# Altium schematic symbol library Schlib1.SchLib: 21 symbols
Pins are listed as number, name and electrical type; pins without a type are passive.

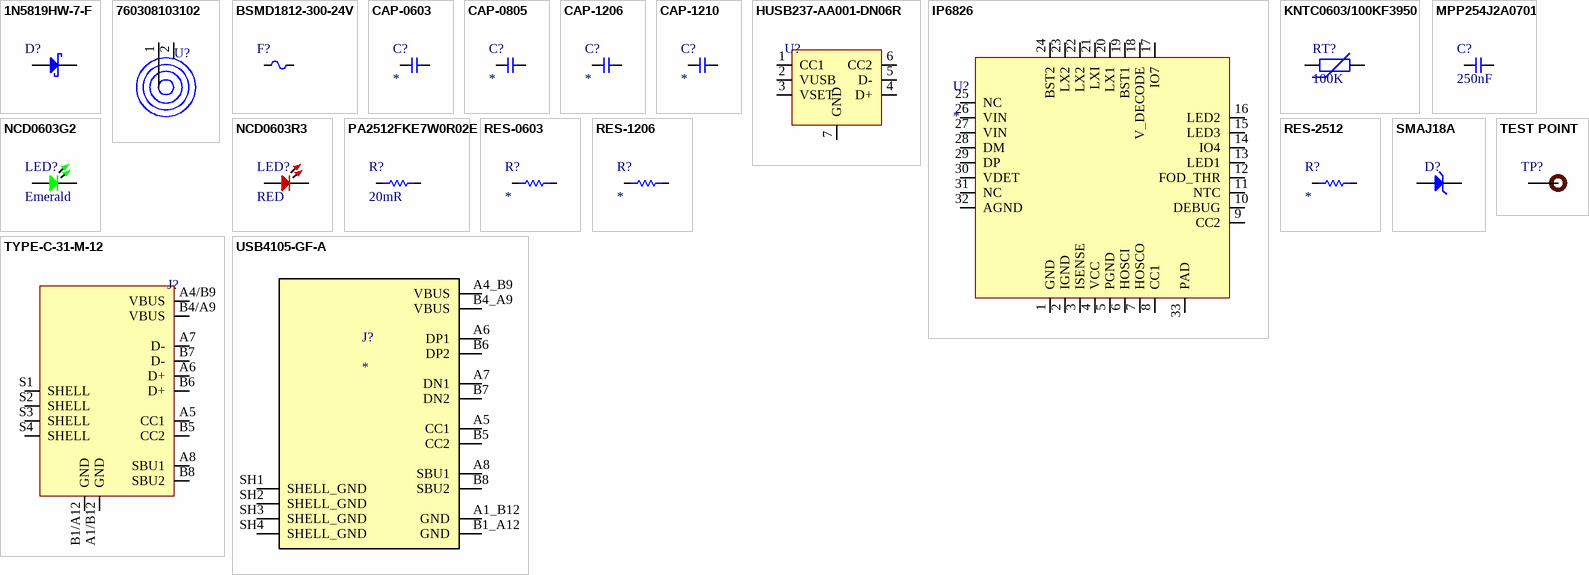
[diagram p0: symbols 1N5819HW-7-F to USB4105-GF-A]

## 1N5819HW-7-F
designator D?
DIODE SCHOTTKY 40V 1A SOD123; Manufacturer: Diodes; Manufacturer Part Number: 1N5819HW-7-F; Forward Voltage: 450mV; Max Reverse Current: 50uA; Element Configuration: Single; Max Forward Surge Current (Ifsm): 25A; Max Power Dissipation: 450mW; Polarity: Standard; Capacitance: 110pF; Supplier 1: Digi-Key; RoHS: Yes; Category: Schottky Diodes; Pricing 1: 1=0.46000, 10=0.34500, 100=0.19530, 500=0.12936, 1000=0.09918 (USD); Case/Package: SOD-123-2; Number of Pins: 2; Weight: 0.000353oz; Contact Plating: Tin,Matte; Min Operating Temperature: -65°C; Max Operating Temperature: 125°C; Forward Current: 1A; Max Repetitive Reverse Voltage (Vrrm): 40V; Packaging: Tape and Reel; Peak Non-Repetitive Surge Current: 25A; Package Quantity: 3000; Average Rectified Current: 1A; Termination: SMD/SMT; Voltage Rating (DC): 40V; Current Rating: 1A; Output Current: 1A; Max Reverse Voltage (DC): 40V; Series: -; Length: 2.85mm; Width: 1.7mm; Height: 1.25mm; Radiation Hardening: No; RoHS Compliant: Yes; REACH SVHC: No SVHC; Lead Free: Lead Free; ComponentLink1URL: https://datasheet.ciiva.com/16303/ds30217-16303296.pdf?src-supplier=Future+Electronics; ComponentLink1Description: https://datasheet.ciiva.com/16303/ds30217-16303296.pdf?src-supplier=Future+Electronics; ComponentLink2URL: https://datasheet.ciiva.com/27092/1538419-27092484.pdf?src-supplier=Jameco; ComponentLink2Description: https://datasheet.ciiva.com/27092/1538419-27092484.pdf?src-supplier=Jameco; ComponentLink3URL: https://datasheet.ciiva.com/912/ds30217-912801.pdf?src-supplier=Digi-Key; ComponentLink3Description: https://datasheet.ciiva.com/912/ds30217-912801.pdf?src-supplier=Digi-Key; ComponentLink4URL: https://datasheet.ciiva.com/1177/ds30217-1177089.pdf?src-supplier=Element14; ComponentLink4Description: https://datasheet.ciiva.com/1177/ds30217-1177089.pdf?src-supplier=Element14; ComponentLink5URL: https://datasheet.ciiva.com/912/ds30217-912802.pdf?src-supplier=Digi-Key; ComponentLink5Description: https://datasheet.ciiva.com/912/ds30217-912802.pdf?src-supplier=Digi-Key; ComponentLink6URL: https://datasheet.ciiva.com/912/ds30217-912803.pdf?src-supplier=Digi-Key; ComponentLink6Description: https://datasheet.ciiva.com/912/ds30217-912803.pdf?src-supplier=Digi-Key; ComponentLink7URL: https://datasheet.ciiva.com/8303/ds30217-8303132.pdf?src-supplier=Avnet; ComponentLink7Description: https://datasheet.ciiva.com/8303/ds30217-8303132.pdf?src-supplier=Avnet; ComponentLink8URL: https://datasheet.ciiva.com/25919/ds30217-25919644.pdf?src-supplier=Avnet+Europe; ComponentLink8Description: https://datasheet.ciiva.com/25919/ds30217-25919644.pdf?src-supplier=Avnet+Europe; Supplier Part Number 1: 1N5819HW-FDICT-ND; LCSC Part Number: C82544; Item Type: Diode
footprint SOD-123
pins: 1 A, 2 K

## 760308103102
designator U?, comment 10uH  (value not drawn)
WE-WPCC Wireless Power Transfer Transmitter Coil, THT, Qi - MP-A2, 10uH, 150W; Manufacturer Part Number: 760308103102; Manufacturer: Wurth Elektronik; DC Resistance Max: 55mOhm; Q Factor: 130; Rated Current: 7A; Self Resonant Frequency: 11MHz; Category: Wireless Power Transmission; Match Code: WE-WPCC; ComponentLink1Description: Website Link; ComponentLink1URL: https://www.we-online.com/redexpert/article/760308103102?ad; ComponentLink2Description: Datasheet Link; ComponentLink2URL: https://www.we-online.com/redexpert/spec/760308103102?ad; Mount: Through Hole; Operating Temperature Max: 105°C; Operating Temperature Min: -20°C; Packaging: Tray; Length: 53; Width: 53; Height: 4.5mm; Compliance: Qi - MP-A2; Inductance: 10uH; Power Capability: 150W
footprint 760308103102
pins: 1, 2

## BSMD1812-300-24V
designator F?
24V 3A 40A 6A 1812 Resettable Fuses ROHS; Manufacturer: BHFUSE; Manufacturer Part Number: BSMD1812-300-24V; Item Type: Fuse; Supplier: LCSC; LCSC Part Number: C7500481; RoHS: No; ComponentLink1Description: LCSC; ComponentLink1URL: https://www.lcsc.com/product-detail/Resettable-Fuses_BHFUSE-BSMD1812-300-24V_C7500481.html
footprint Fuse-1812_
pins: 1, 2

## CAP-0603
designator C?
footprint Cap-0603
pins: 1, 2

## CAP-0805
designator C?
footprint Cap-0805 (SMD 0805)
pins: 1, 2

## CAP-1206
designator C?
footprint Cap-1206 (SMD 1206)
pins: 1, 2

## CAP-1210
designator C?
footprint Cap-1210 (SMD 1210)
pins: 1, 2

## HUSB237-AA001-DN06R
designator U?
DFN-6L-EP(2x2) USB PD ROHS; Manufacturer: Hynetek; Manufacturer Part Number: HUSB237-AA001-DN06R; Item Type: IC; Package: DFN-6L-EP(2x2); LCSC Part Number: C22373734; ComponentLink1Description: LCSC; ComponentLink1URL: https://www.lcsc.com/product-detail/USB-PD_Hynetek-HUSB237-AA001-DN06R_C22373734.html
footprint DFN-6L-EP(2x2)
pins: 1 CC1, 2 VUSB, 3 VSET, 4 D+, 5 D-, 6 CC2, 7 GND

## IP6826
designator U?
footprint QFN-32_L5.0-W5.0-P0.50-BL-EP3.8
pins: 1 GND, 2 IGND, 3 ISENSE, 4 VCC, 5 PGND, 6 HOSCI, 7 HOSCO, 8 CC1, 9 CC2, 10 DEBUG, 11 NTC, 12 FOD_THR, 13 LED1, 14 IO4, 15 LED3, 16 LED2, 17 IO7, 18 V_DECODE, 19 BST1, 20 LX1, 21 LXI, 22 LX2, 23 LX2, 24 BST2, 25 NC, 26 VIN, 27 VIN, 28 DM, 29 DP, 30 VDET, 31 NC, 32 AGND, 33 PAD

## KNTC0603/100KF3950
designator RT?, comment 100K
100kΩ 100uA 100mW 3950K ±1% 0603 NTC Thermistors ROHS; Manufacturer: KUU; Manufacturer Part Number: KNTC0603/100KF3950; Package: 0603; LCSC Part Number: C2892545; Item Type: NTC Thermistor; ComponentLink1Description: LCSC; ComponentLink1URL: https://lcsc.com/product-detail/NTC-Thermistors_KUU-KNTC0603-100KF3950_C2892545.html
footprint Res-0603
pins: 1, 2

## MPP254J2A0701
designator C?, comment 250nF
footprint CAP-TH_L9.0-W3.5-P7.50-D1.0
pins: 1, 2

## NCD0603G2
designator LED?, comment Emerald
Emerald 0603 Light Emitting Diodes (LED) ROHS; Manufacturer: Foshan NationStar Optoelectronics; Manufacturer Part Number: NCD0603G2; Package: 0603; LCSC Part Number: C87326; Item Type: LED; ComponentLink1Description: LCSC; ComponentLink1URL: https://www.lcsc.com/product-detail/Light-Emitting-Diodes-LED_Foshan-NationStar-Optoelectronics-NCD0603G2_C87326.html
footprint LED-0603
pins: 1, 2

## NCD0603R3
designator LED?, comment RED
RED LED 0603 Light Emitting Diodes; Manufacturer: Foshan NationStar Optoelectronics; Manufacturer Part Number: NCD0603R3; Package: 0603; Item Type: LED; LCSC Part Number: C3151730; ComponentLink1Description: LCSC; ComponentLink1URL: https://www.lcsc.com/product-detail/Light-Emitting-Diodes-LED_Foshan-NationStar-Optoelectronics-NCD0603R3_C3151730.html
footprint LED-0603
pins: 1, 2

## PA2512FKE7W0R02E
designator R?, comment 20mR
RES 0.02 OHM 1% 2W 2512; Manufacturer: Yageo; Manufacturer Part Number: PA2512FKE7W0R02E; Item Type: Resistor; Supplier: Digikey; LCSC Part Number: C375689; RoHS: No; Stock: 3212; Pricing: 1=0.79, 10=0.514, 25=0.4384, 50=0.3908, 100=0.3503, 250=0.306, 500=0.27824, 1000=0.25464 (USD); ComponentLink1URL: https://datasheet.octopart.com/PA2512FKE7W0R02E-Yageo-datasheet-137700559.pdf?src-supplier=Newark; ComponentLink1Description: https://datasheet.octopart.com/PA2512FKE7W0R02E-Yageo-datasheet-137700559.pdf?src-supplier=Newark
footprint RES-2512
pins: 1, 2

## RES-0603
designator R?
footprint Res-0603
pins: 1, 2

## RES-1206
designator R?
footprint Res-1206
pins: 1, 2

## RES-2512
designator R?
footprint RES-2512
pins: 1, 2

## SMAJ18A
designator D?
13.7A 400W 29.2V 20V Unidirectional 18V SMA(DO-214AC) Electrostatic and Surge Protection (TVS/ESD) ROHS; Manufacturer: SMC; Manufacturer Part Number: SMAJ18A; Package: SMA(DO-214AC); LCSC Part Number: C499735; Item Type: TVS/ESD; ComponentLink1Description: LCSC; ComponentLink1URL: https://www.lcsc.com/product-detail/Electrostatic-and-Surge-Protection-TVS-ESD_SMC-Sangdest-Microelectronicstronic-Nanjing-SMAJ18A_C499735.html
footprint SMA(DO-214AC)
pins: 1 K, 2 A

## TEST POINT
designator TP?  (no BOM)
Test Point ON; Item Type: TEST POINT
footprint Test-point
pins: 1

## TYPE-C-31-M-12
designator J?
5A 1 16P Female Type-C SMD USB Connectors ROHS; Manufacturer: Korean Hroparts Elec; Manufacturer Part Number: TYPE-C-31-M-12; ComponentLink1Description: LCSC; ComponentLink1URL: https://www.lcsc.com/product-detail/USB-Connectors_Korean-Hroparts-Elec-TYPE-C-31-M-12_C165948.html; Footprint: Custom; LCSC Part Number: C165948; Item Type: USB Connector
footprint TYPE-C-31-M-12_
pins: A1/B12 GND (power), A4/B9 VBUS (power), A5 CC1, A6 D+, A7 D-, A8 SBU1, B1/A12 GND (power), B4/A9 VBUS (power), B5 CC2, B6 D+, B7 D-, B8 SBU2, S1 SHELL, S2 SHELL, S3 SHELL, S4 SHELL

## USB4105-GF-A
designator J?
MF: {'manufacturer': u'GCT'}; MP: USB4105-GF-A; Package: None; Price: None; Value: *; Availability: Unavailable
footprint GCT_USB4105-GF-A
pins: A1_B12 GND, A4_B9 VBUS, A5 CC1, A6 DP1, A7 DN1, A8 SBU1, B1_A12 GND, B4_A9 VBUS, B5 CC2, B6 DP2, B7 DN2, B8 SBU2, SH1 SHELL_GND, SH2 SHELL_GND, SH3 SHELL_GND, SH4 SHELL_GND